# Altium footprint library SOP254P675X240-4N.PcbLib: 1 footprints
Each footprint in its own frame and in the unit in brackets; x right, y up, seen from the top. Pads: shape width x height; smd on the part's side, far side on the other; paste and mask are expansions set on the pad; w line width, h text height; cw(c..) or ccw(c..) is an arc to the next point about the centre after c.
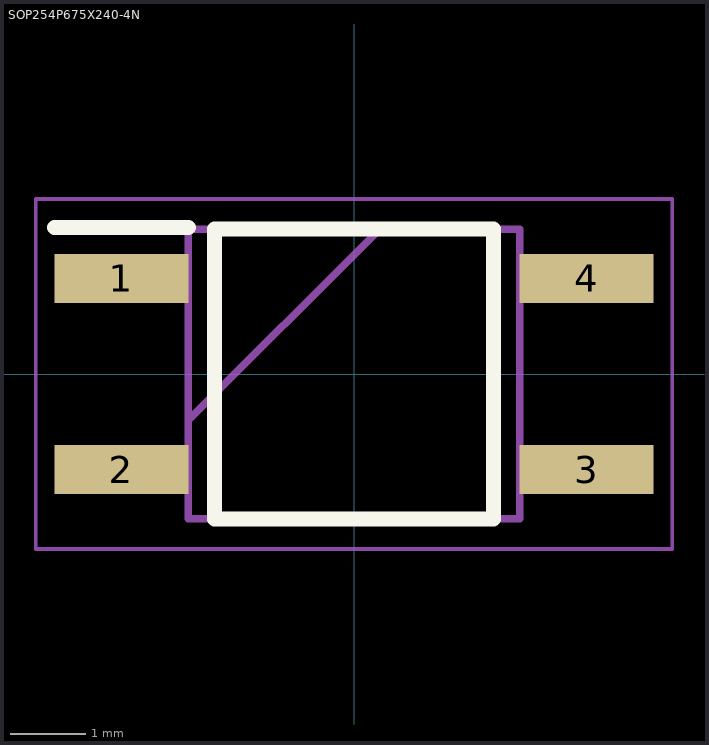
[diagram p0: the footprint, top view; thin cyan lines are the x and y axes]

## SOP254P675X240-4N [mm]
pads (4):
  rect 1.775x0.65 smd: 1(-3.088,1.27) 2(-3.088,-1.27) 3(3.088,-1.27) 4(3.088,1.27)
Top Overlay:
  lines w0.2: -3.975,1.945 -2.2,1.945 ; -1.85,-1.925 1.85,-1.925 1.85,1.925 -1.85,1.925 -1.85,-1.925
Mechanical 15:
  lines w0.1: -2.2,-0.615 0.34,1.925 ; -2.2,-1.925 2.2,-1.925 2.2,1.925 -2.2,1.925 -2.2,-1.925
Mechanical 20:
  lines w0.05: -4.225,-2.325 4.225,-2.325 4.225,2.325 -4.225,2.325 -4.225,-2.325